# Altium schematic symbol library ROBOCAM_1.SCHLIB: 230 symbols (part 1 of 5)
Pins are listed as number, name and electrical type; pins without a type are passive.

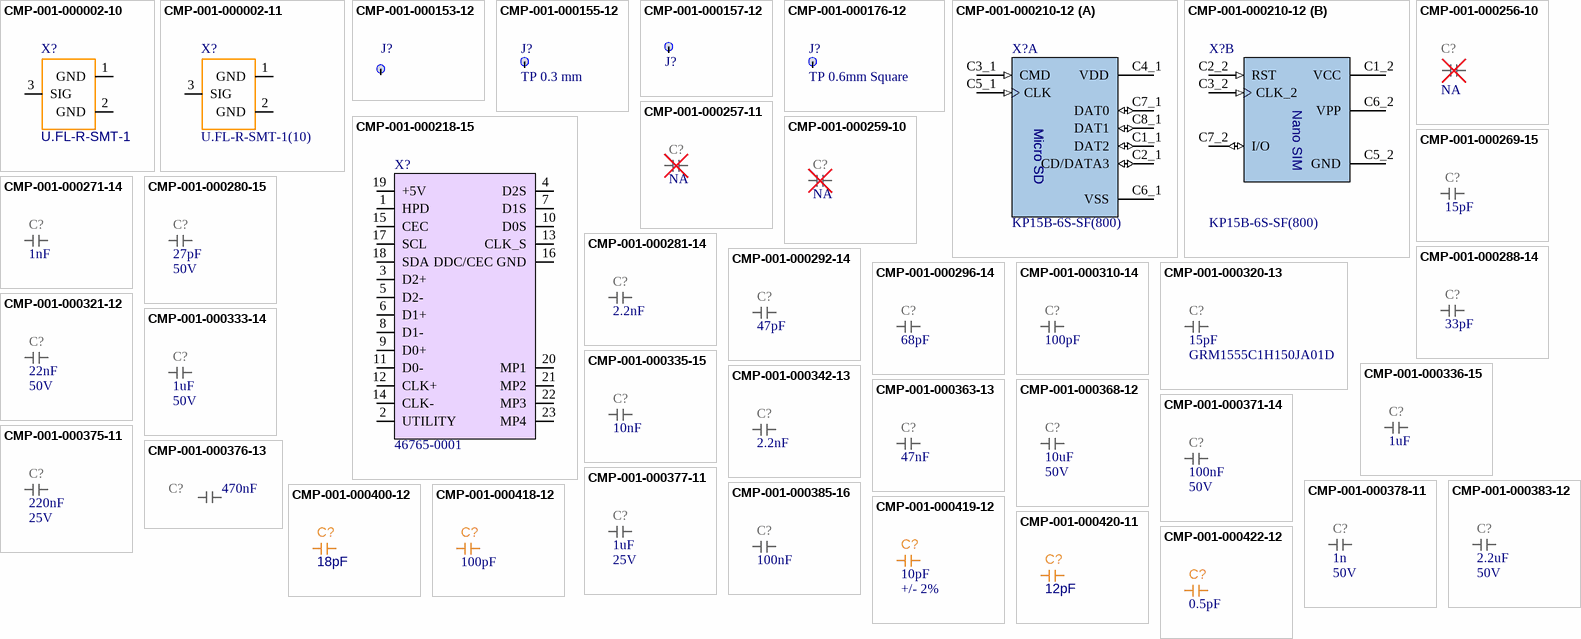
[diagram p0: symbols CMP-001-000002-10 to CMP-001-000422-12]

## CMP-001-000002-10
designator X?, comment Part Number: U.FL-R-SMT-1  (hidden comment: U_FL_V3)
U.FL Connector, v3, updated pads smaller by Sercom.; Manufacturer: Hirose; Manufacturer: HIROSE ELECTRIC; Manufacturer Part Number: U.FL-R-SMT-1(10); Sort order: 111; HasBeenBuilt: True; ClassName: BIG; ComponentLink1Description: 1_Datasheet; ComponentLink1URL: https://www.hirose.com/product/document?clcode=CL0331-0472-2-80&productname=U.FL-R-SMT-1(80)&series=U.FL&documenttype=2DDrawing&lang=en&documentid=0001257922; ComponentLink2Description: 2_Product page; ComponentLink3Description: 3_X-information; ComponentLink4Description: 4_X-information; Creation date: 20200101; System: Connector; Design Item ID: U_FL_V3; Source: Conn_UN1Q.SchLib; Component Type: RF Connector
footprint U_FL_HRS_V3 (SMD, 3-Leads, Body 2.6x2.6mm)
pins: 1 GND (power), 2 GND (power), 3 SIG

## CMP-001-000002-11
designator X?, comment Part Number: U.FL-R-SMT-1(10)  (hidden comment: U_FL_V3)
U.FL Connector, v3, updated pads smaller by Sercom.; Manufacturer: Hirose; Manufacturer: HIROSE ELECTRIC; Sort order: 111; HasBeenBuilt: True; ClassName: BIG; ComponentLink1Description: 1_Datasheet; ComponentLink1URL: https://www.hirose.com/product/document?clcode=CL0331-0472-2-80&productname=U.FL-R-SMT-1(80)&series=U.FL&documenttype=2DDrawing&lang=en&documentid=0001257922; ComponentLink2Description: 2_Product page; ComponentLink3Description: 3_X-information; ComponentLink4Description: 4_X-information; Creation date: 20200101; System: Connector; ECCN: EAR99; Design Item ID: U_FL_V3; Source: Conn_UN1Q.SchLib; RoHS: RoHS 3; Manufacturer Part Number: U.FL-R-SMT-1(10); Component Type: RF Connector
footprint U_FL_HRS_V3 (SMD, 3-Leads, Body 2.6x2.6mm)
pins: 1 GND (power), 2 GND (power), 3 SIG

## CMP-001-000153-12
designator J?, comment Testpoint, Surface, 1.0mm  (value not drawn)  (no BOM)
Testpoint 1.0mm; Part Number: TP 1mm; Sort order: -; HasBeenBuilt: -; ClassName: SMALL; ComponentLink1Description: 1_Datasheet; ComponentLink2Description: 2_Product page; ComponentLink3Description: 3_X-information; ComponentLink4Description: 4_X-information; Creation date: 20200101; System: Test Point; Design Item ID: TP_1mm; Source: Conn_UN1Q.SchLib; Component Type: Test Point
footprint TP_1mm_UN1Q (Test Point, Circular, 1.0 mm)
pins: 1 TP

## CMP-001-000155-12
designator J?, comment Part Number: TP 0.3 mm  (hidden comment: TP_03mm)  (no BOM)
Testpoint 0.3mm; HasBeenBuilt: -; ComponentLink3Description: 3_X-information; Creation date: 20220808; System: Test Point; Sort order: -; ClassName: SMALL; Source: Conn_UN1Q.SchLib; ComponentLink1Description: 1_Datasheet; ComponentLink2Description: 2_Product page; Design Item ID: TP_03mm; ComponentLink4Description: 4_X-information; Component Type: Test Point
footprint TP_03mm_UN1Q (Test Point 0.3 mm)
pins: 1 TP

## CMP-001-000157-12
designator J?, comment PAD 1 x 2 mm  (value not drawn)  (no BOM)
Part Number: TP 1x2mm; System: Test Point; Sort order: -; HasBeenBuilt: -; ClassName: SMALL; ComponentLink1Description: 1_Datasheet; ComponentLink2Description: 2_Product page; ComponentLink3Description: 3_X-information; ComponentLink4Description: 4_X-information; Creation date: 20200101; Source: Conn_UN1Q.SchLib; Design Item ID: TP_1x2mm; Component Type: Test Point
footprint TP_1x2mm_UN1Q (Test Point 1 mm x 2 mm)
pins: 1 TP

## CMP-001-000176-12
designator J?, comment Part Number: TP 0.6mm Square  (hidden comment: TP_06mm_Square)  (no BOM)
Testpoint, Square, 0.6 mm; ClassName: SMALL; Sort order: -; Design Item ID: TP_06mm_Square; ComponentLink4Description: 4_X-information; ComponentLink1Description: 1_Datasheet; Creation date: 20200101; ComponentLink2Description: 2_Product page; HasBeenBuilt: -; Source: Conn_UN1Q.SchLib; ComponentLink3Description: 3_X-information; System: Test Point; Component Type: Test Point
footprint TP_06mm_Square_UN1Q (Test Point, Square, 0.6mm)
pins: 1 TP

## CMP-001-000210-12
designator X?, comment Part Number: KP15B-6S-SF(800)  (hidden comment: KP15B-6S-SF800_Hirose)
microSD and NANO SIM Card Connector Combo; Manufacturer: Hirose; Manufacturer: HIROSE ELECTRIC; HasBeenBuilt: SleeveIO_01; Sort order: 111; ComponentLink2Description: 2_Product page; ClassName: BIG; Dimensions WxLxH: 12x18x2.1; ComponentLink1Description: 1_Datasheet; Source: Conn_UN1Q.SchLib; ComponentLink2URL: https://www.hirose.com/en/product/p/CL0480-0333-0-00; ComponentLink3Description: 3_X-information; System: Connector; Creation date: 20211115; Design Item ID: KP15B-6S-SF800_Hirose; ComponentLink1URL: https://www.hirose.com/en/product/document?clcode=CL0480-0333-0-00&productname=KP15B-6S-SF(800)&series=KP15&documenttype=2DDrawing&lang=en&documentid=KP15B-6S-SF_48003330_2D_ENG; ComponentLink4Description: 4_X-information; Manufacturer Part Number: KP15B-6S-SF(800); Component Type: Interface Connector
footprint KP15B-6S-SF800_HIROSE (micro SD, nano SIM Combo Card Socket)
part A pins: C1_1 DAT2 (io), C2_1 CD/DATA3 (io), C3_1 CMD (in), C4_1 VDD, C5_1 CLK (in), C6_1 VSS (power), C7_1 DAT0 (io), C8_1 DAT1 (io)
part B pins: C1_2 VCC (power), C2_2 RST (in), C3_2 CLK_2 (in), C5_2 GND (power), C6_2 VPP (power), C7_2 I/O (io), G1 GND (power) hidden to GND, G2 GND (power) hidden to GND, S1 SHIELD hidden to GND, S2 SHIELD hidden to GND, S3 SHIELD hidden to GND, S4 SHIELD hidden to GND, S5 SHIELD hidden to GND, S6 SHIELD hidden to GND, S7 SHIELD hidden to GND, S8 SHIELD hidden to GND, S9 SHIELD hidden to GND, S10 SHIELD hidden to GND
part A text: Micro SD
part B text: Nano SIM

## CMP-001-000218-15
designator X?, comment Part Number: 46765-0001  (hidden comment: Molex_uHDMI_46765-0001)
Micro-HDMI connector, surface mount; Manufacturer: Molex; Sort order: 111; RoHS: RoHS 3; Design Item ID: Molex_uHDMI_46765-0001; ComponentLink1Description: 1_Datasheet; Source: Conn_UN1Q.SchLib; Dimensions WxLxH: 6.5x7.7x2.9; System: Connector; ClassName: BIG; ComponentLink3Description: 3_X-information; ECCN: EAR99; ComponentLink1URL: https://www.molex.com/molex/products/part-detail/io_connectors/0467650001; ComponentLink4Description: 4_X-information; Creation date: 20191231; ComponentLink2Description: 2_Product page; Manufacturer Part Number: 46765-0001; Component Type: Interface Connector
footprint uHDMI-SMD-Molex (Micro-HDMI connector, surface mount)
pins: 1 HPD, 2 UTILITY, 3 D2+, 4 D2S, 5 D2-, 6 D1+, 7 D1S, 8 D1-, 9 D0+, 10 D0S, 11 D0-, 12 CLK+, 13 CLK_S, 14 CLK-, 15 CEC, 16 DDC/CEC GND, 17 SCL, 18 SDA, 19 +5V, 20 MP1, 21 MP2, 22 MP3, 23 MP4

## CMP-001-000256-10
designator C?, comment value NA  (hidden comment: CAP_0201_NA)
Not Assembled - CAP; Sort order: 999; System: RLC; HasBeenBuilt: TBD; ComponentLink4Description: 4_X-information; ClassName: SMALL; Package: 0201; ComponentLink2Description: 2_Product page; ComponentLink3Description: 3_X-information; ComponentLink1Description: 1_Datasheet; Creation date: 20190101; Source: RLC_UN1Q.SchLib; Component Type: Capacitor
footprint CAP_0201_UN1Q (Chip Capacitor 0201)
pins: 1, 2

## CMP-001-000257-11
designator C?, comment value NA  (hidden comment: CAP_0402_NA)
Not Assembled - CAP; Sort order: 999; System: RLC; HasBeenBuilt: TBD; Package: 0402; Source: RLC_UN1Q.SchLib; ComponentLink2Description: 2_Product page; Creation date: 20190101; ComponentLink3Description: 3_X-information; ComponentLink4Description: 4_X-information; ComponentLink1Description: 1_Datasheet; Component Type: Capacitor
footprint CAP_0402_UN1Q (Chip Capacitor 0402)
pins: 1, 2

## CMP-001-000259-10
designator C?, comment value NA  (hidden comment: CAP_0603_NA)
Not Assembled - CAP; Sort order: 999; System: RLC; HasBeenBuilt: TBD; Creation date: 20190101; Package: 0603; Source: RLC_UN1Q.SchLib; ComponentLink3Description: 3_X-information; ComponentLink1Description: 1_Datasheet; ComponentLink2Description: 2_Product page; ComponentLink4Description: 4_X-information; Component Type: Capacitor
footprint CAP_0603_UN1Q (Chip Capacitor 0603)
pins: 1, 2

## CMP-001-000269-15
designator C?, comment value 15pF  (hidden comment: CAP_0201_15p)
CAP; Part Number: GRM0335C1H150JA01D; Manufacturer: Murata; Temperature characteristics: C0G; Voltage: 50V; Tolerance: +/-5%; Sort order: 302; HasBeenBuilt: TBD; Alternative component: Allowed; System: RLC; Package: 0201; ComponentLink1Description: 1_Datasheet; ComponentLink2Description: 2_Product page; ComponentLink3Description: 3_X-information; ComponentLink4Description: 4_X-information; Creation date: 20190101; ClassName: SMALL; Source: RLC_UN1Q.SchLib; Manufacturer Part Number: GRM0335C1H150JA01D; Component Type: Capacitor
footprint CAP_0201_UN1Q (Chip Capacitor 0201)
pins: 1, 2

## CMP-001-000271-14
designator C?, comment value 1nF  (hidden comment: CAP_0201_1n0)
CAP; Part Number: GRM033R71E102KA01D; Manufacturer: Samsung; Manufacturer: Murata; Temperature characteristics: X7R; Tolerance: +/-10%; Sort order: 302; HasBeenBuilt: TBD; Alternative component: Allowed; Voltage: 25V; System: RLC; Package: 0201; ComponentLink1Description: 1_Datasheet; ComponentLink2Description: 2_Product page; ComponentLink3Description: 3_X-information; ComponentLink4Description: 4_X-information; Creation date: 20190101; ClassName: SMALL; Manufacturer Part Number: GRM033R71E102KA01D; Component Type: Capacitor
footprint CAP_0201_UN1Q (Chip Capacitor 0201)
pins: 1, 2

## CMP-001-000280-15
designator C?, comment value 27pF  Voltage: 50V  (hidden comment: CAP_0201_27p)
CAP; Part Number: GRM0335C1H270JA01D; Manufacturer: TDK; Manufacturer: Murata; Temperature characteristics: C0G; Tolerance: +/-5%; Sort order: 302; HasBeenBuilt: TBD; Alternative component: Allowed; System: RLC; Package: 0201; ComponentLink1Description: 1_Datasheet; ComponentLink2Description: 2_Product page; ComponentLink3Description: 3_X-information; ComponentLink4Description: 4_X-information; Creation date: 20190101; ClassName: SMALL; Source: RLC_UN1Q.SchLib; Manufacturer Part Number: GRM0335C1H270JA01D; Component Type: Capacitor
footprint CAP_0201_UN1Q (Chip Capacitor 0201)
pins: 1, 2

## CMP-001-000281-14
designator C?, comment value 2.2nF  (hidden comment: CAP_0201_2n2)
CAP; Part Number: GRM033R71E222KA12J; Manufacturer: Murata; Tolerance: +/-10%; Voltage: 25V; Temperature characteristics: X7R; Sort order: 302; HasBeenBuilt: TBD; Alternative component: Allowed; System: RLC; Package: 0201; ClassName: SMALL; ComponentLink1Description: 1_Datasheet; ComponentLink2Description: 2_Product page; ComponentLink3Description: 3_X-information; ComponentLink4Description: 4_X-information; Creation date: 20222504; Source: RLC_UN1Q.SchLib; Manufacturer Part Number: GRM033R71E222KA12J; Component Type: Capacitor
footprint CAP_0201_UN1Q (Chip Capacitor 0201)
pins: 1, 2

## CMP-001-000288-14
designator C?, comment value 33pF  (hidden comment: CAP_0201_33p)
CAP; Part Number: GRT0335C1E330JA02D; Manufacturer: Murata; Alternative component: Allowed; Tolerance: +/-5%; Temperature characteristics: C0G; System: RLC; Voltage: 25V; Sort order: 302; ComponentLink4Description: 4_X-information; Package: 0201; ComponentLink1Description: 1_Datasheet; ComponentLink2Description: 2_Product page; ClassName: SMALL; ComponentLink3Description: 3_X-information; Creation date: 20190101; Manufacturer Part Number: GRT0335C1E330JA02D; Component Type: Capacitor
footprint CAP_0201_UN1Q (Chip Capacitor 0201)
pins: 1, 2

## CMP-001-000292-14
designator C?, comment value 47pF  (hidden comment: CAP_0201_47p)
CAP; Part Number: GRM0335C1H470JA01D; Manufacturer: Samsung; Manufacturer: Murata; Temperature characteristics: C0G; Voltage: 50V; Tolerance: +/-5%; Sort order: 302; HasBeenBuilt: TBD; Alternative component: Allowed; System: RLC; Package: 0201; ClassName: SMALL; ComponentLink1Description: 1_Datasheet; ComponentLink2Description: 2_Product page; ComponentLink3Description: 3_X-information; ComponentLink4Description: 4_X-information; Creation date: 20190101; Source: RLC_UN1Q.SchLib; Manufacturer Part Number: GRM0335C1H470JA01D; Component Type: Capacitor
footprint CAP_0201_UN1Q (Chip Capacitor 0201)
pins: 1, 2

## CMP-001-000296-14
designator C?, comment value 68pF  (hidden comment: CAP_0201_68p)
CAP; Part Number: GRM0335C1E680JA01D; Manufacturer: Murata; Temperature characteristics: C0G; Alternative component: Allowed; Tolerance: +/-5%; Voltage: 25V; HasBeenBuilt: TBD; Sort order: 302; System: RLC; Operating temperature range: -55°C ~ 125°C; ComponentLink3Description: 3_X-information; ComponentLink2Description: 2_Product page; Package: 0201; Creation date: 20190101; ComponentLink4Description: 4_X-information; ClassName: SMALL; ComponentLink1Description: 1_Datasheet; Manufacturer Part Number: GRM0335C1E680JA01D; Component Type: Capacitor
footprint CAP_0201_UN1Q (Chip Capacitor 0201)
pins: 1, 2

## CMP-001-000310-14
designator C?, comment value 100pF  (hidden comment: CAP_0201_100p)
CAP; Part Number: CC0201KRX7R8BB101; Manufacturer: YAGEO; Manufacturer: Yageo Group; Temperature characteristics: X7R; Voltage: 25V; Tolerance: +/-10%; Sort order: 302; HasBeenBuilt: TBD; Alternative component: Allowed; System: RLC; Package: 0201; ClassName: SMALL; ComponentLink1Description: 1_Datasheet; ComponentLink2Description: 2_Product page; ComponentLink3Description: 3_X-information; ComponentLink4Description: 4_X-information; Creation date: 20190101; Manufacturer Part Number: CC0201KRX7R8BB101; Component Type: Capacitor
footprint CAP_0201_UN1Q (Chip Capacitor 0201)
pins: 1, 2

## CMP-001-000320-13
designator C?, comment value 15pF  Part Number: GRM1555C1H150JA01D  (hidden comment: CAP_0402_15pF)
CAP; Manufacturer: Murata; Sort order: 304; Alternative component: Allowed; Tolerance: +/-5%; Temperature characteristics: C0G; System: RLC; HasBeenBuilt: Saluki3; Voltage: 50V; Operating temperature range: -55 ... +125°C; ComponentLink4Description: 4_X-information; Creation date: 20230614; Source: RLC_UN1Q.SchLib; Package: 0402; ComponentLink2Description: 2_Product page; ComponentLink3Description: 3_X-information; ECCN: EAR99; ComponentLink1Description: 1_Datasheet; RoHS: ROHS3; Manufacturer Part Number: GRM1555C1H150JA01D; Component Type: Capacitor
footprint CAP_0402_UN1Q (Chip Capacitor 0402)
pins: 1, 2

## CMP-001-000321-12
designator C?, comment value 22nF  Voltage: 50V  (hidden comment: CAP_0402_22nF)
CAP; Part Number: GCM155R71H223KA55D; Manufacturer: Murata; Temperature characteristics: X7R; Sort order: 304; System: RLC; HasBeenBuilt: False; Tolerance: +/-10%; Alternative component: Allowed; ECCN: EAR99; Creation date: 20210916; ComponentLink1Description: 1_Datasheet; Source: RLC_UN1Q.SchLib; ComponentLink4Description: 4_X-information; ComponentLink2Description: 2_Product page; RoHS: RoHS3; Package: 0402; ComponentLink3Description: 3_X-information; Operating temperature range: -55 ... +125°C; Manufacturer Part Number: GCM155R71H223KA55D; Component Type: Capacitor
footprint CAP_0402_UN1Q (Chip Capacitor 0402)
pins: 1, 2

## CMP-001-000333-14
designator C?, comment value 1uF  Voltage: 50V  (hidden comment: CAP_0603_1u_X7R)
CAP; Part Number: UMK107AB7105KA-T; Manufacturer: Taiyo Yuden; Tolerance: +/-20%; Sort order: 306; HasBeenBuilt: TBD; Alternative component: Allowed; Temperature characteristics: X7R; System: RLC; Package: 0603; ComponentLink1Description: 1_Datasheet; ComponentLink2Description: 2_Product page; ComponentLink3Description: 3_X-information; ComponentLink4Description: 4_X-information; Creation date: 20210917; Source: RLC_UN1Q.SchLib; Manufacturer Part Number: UMK107AB7105KA-T; Component Type: Capacitor
footprint CAP_0603_UN1Q (Chip Capacitor 0603)
pins: 1, 2

## CMP-001-000335-15
designator C?, comment value 10nF  (hidden comment: CAP_0201_10n_16V)
CAP; Part Number: GRM033R71C103KE14D; Manufacturer: Murata; Temperature characteristics: X7R; Tolerance: +/-10%; Sort order: 302; HasBeenBuilt: TBD; Alternative component: Allowed; Voltage: 16V; System: RLC; Package: 0201; ClassName: SMALL; ComponentLink1Description: 1_Datasheet; ComponentLink2Description: 2_Product page; ComponentLink3Description: 3_X-information; ComponentLink4Description: 4_X-information; Creation date: 20190101; Source: RLC_UN1Q.SchLib; Manufacturer Part Number: GRM033R71C103KE14D; Component Type: Capacitor
footprint CAP_0201_UN1Q (Chip Capacitor 0201)
pins: 1, 2

## CMP-001-000336-15
designator C?, comment value 1uF  (hidden comment: CAP_0201_1uF_X6S)
CAP; Part Number: KGM03CS61A105MH; Manufacturer: Kyocera; Manufacturer: KYOCERA AVX; Temperature characteristics: X6S; Voltage: 10V; Tolerance: +/-20%; Sort order: 302; HasBeenBuilt: False; Alternative component: Allowed; System: RLC; Package: 0201; Operating temperature range: -55C to +105C; ClassName: SMALL; ComponentLink1Description: 1_Datasheet; ComponentLink2Description: 2_Product page; ComponentLink3Description: 3_X-information; ComponentLink4Description: 4_X-information; Creation date: 20190101; Source: RLC_UN1Q.SchLib; Manufacturer Part Number: KGM03CS61A105MH; Component Type: Capacitor
footprint CAP_0201_UN1Q (Chip Capacitor 0201)
pins: 1, 2

## CMP-001-000342-13
designator C?, comment value 2.2nF  (hidden comment: CAP_0402_2n2_X7R)
CAP; Part Number: GRM155R71H222KA01D; Manufacturer: Murata; Sort order: 304; System: RLC; Voltage: 50V; Alternative component: Allowed; Tolerance: +/-10%; Temperature characteristics: X7R; HasBeenBuilt: Saluki3; Source: RLC_UN1Q.SchLib; RoHS: RoHS3; ComponentLink1Description: 1_Datasheet; ComponentLink3Description: 3_X-information; ECCN: EAR99; ComponentLink2Description: 2_Product page; Creation date: 20221705; Package: 0402; ComponentLink4Description: 4_X-information; Operating temperature range: -55 to +125°C; Manufacturer Part Number: GRM155R71H222KA01D; Component Type: Capacitor
footprint CAP_0402_UN1Q (Chip Capacitor 0402)
pins: 1, 2

## CMP-001-000363-13
designator C?, comment value 47nF  (hidden comment: CAP_0402_47nF_50V)
CAP; Part Number: GRM155R71H473KE14D; Manufacturer: Murata; Temperature characteristics: X7R; Voltage: 50V; Tolerance: +/-10%; Sort order: 304; HasBeenBuilt: TBD; Alternative component: Allowed; System: RLC; Package: 0402; ComponentLink1Description: 1_Datasheet; ComponentLink2Description: 2_Product page; ComponentLink3Description: 3_X-information; ComponentLink4Description: 4_X-information; Creation date: 20190101; Source: RLC_UN1Q.SchLib; Manufacturer Part Number: GRM155R71H473KE14D; Component Type: Capacitor
footprint CAP_0402_UN1Q (Chip Capacitor 0402)
pins: 1, 2

## CMP-001-000368-12
designator C?, comment value 10uF  Voltage: 50V  (hidden comment: CAP_1206_10uF_X7R)
CAP; Part Number: CL31B106KBHNNNE; Manufacturer: Samsung; Manufacturer: Samsung Electro-Mechanics; Temperature characteristics: X7R; Tolerance: +/-10%; Sort order: 308; HasBeenBuilt: Saluki3; Alternative component: Allowed; System: RLC; Package: 1206; Operating temperature range: -55 ... +125°C; ComponentLink1Description: 1_Datasheet; ComponentLink2Description: 2_Product page; ComponentLink3Description: 3_X-information; ComponentLink4Description: 4_X-information; Creation date: 20220729; ECCN: EAR99; Source: RLC_UN1Q.SchLib; RoHS: ROHS3; Manufacturer Part Number: CL31B106KBHNNNE; Component Type: Capacitor
footprint CAP_1206_UN1Q (Chip Capacitor 1206)
pins: 1, 2

## CMP-001-000371-14
designator C?, comment value 100nF  Voltage: 50V  (hidden comment: CAP_0402_100nF_50V)
CAP; Part Number: GRM155R71H104KE14D; Manufacturer: Murata; Temperature characteristics: X7R; Tolerance: +/-10%; Sort order: 304; HasBeenBuilt: TBD; Alternative component: Allowed; System: RLC; Package: 0402; ComponentLink1Description: 1_Datasheet; ComponentLink2Description: 2_Product page; ComponentLink3Description: 3_X-information; ComponentLink4Description: 4_X-information; Creation date: 20190101; Manufacturer Part Number: GRM155R71H104KE14D; Component Type: Capacitor
footprint CAP_0402_UN1Q (Chip Capacitor 0402)
pins: 1, 2

## CMP-001-000375-11
designator C?, comment value 220nF  Voltage: 25V  (hidden comment: CAP_0402_220nF_X7R)
CAP; Part Number: CGA2B3X7R1E224K050BB; Manufacturer: TDK; Temperature characteristics: X7R; Tolerance: +/-10%; Sort order: 304; HasBeenBuilt: Saluki3; Alternative component: Allowed; System: RLC; Package: 0402; Operating temperature range: -55 ... +125°C; ComponentLink1Description: 1_Datasheet; ComponentLink2Description: 2_Product page; ComponentLink3Description: 3_X-information; ComponentLink4Description: 4_X-information; Creation date: 20230510; Source: RLC_UN1Q.SchLib; ECCN: EAR99; RoHS: ROSH3; Manufacturer Part Number: CGA2B3X7R1E224K050BB; Component Type: Capacitor
footprint CAP_0402_UN1Q (Chip Capacitor 0402)
pins: 1, 2

## CMP-001-000376-13
designator C?, comment value 470nF  (hidden comment: CAP_0402_470nF_X7R)
CAP; Part Number: GRM155R71A474ME01D; Manufacturer: Murata; Voltage: 10V; Tolerance: +/-20%; System: RLC; Temperature characteristics: X7R; HasBeenBuilt: TBD; Sort order: 304; Alternative component: Allowed; ComponentLink4Description: 4_X-information; Source: RLC_UN1Q.SchLib; ComponentLink3Description: 3_X-information; ComponentLink2Description: 2_Product page; Creation date: 20211026; Operating temperature range: -55 ... +125°C; ComponentLink1Description: 1_Datasheet; ECCN: EAR99; Package: 0402; RoHS: RoHS3; Manufacturer Part Number: GRM155R71A474ME01D; Component Type: Capacitor
footprint CAP_0402_UN1Q (Chip Capacitor 0402)
pins: 1, 2

## CMP-001-000377-11
designator C?, comment value 1uF  Voltage: 25V  (hidden comment: CAP_0402_1uF_25V_X6S)
CAP; Part Number: GRM155C81E105KE11J; Manufacturer: Murata; Temperature characteristics: X6S; Tolerance: +/-10%; Sort order: 304; HasBeenBuilt: Saluki3; Alternative component: Allowed; System: RLC; Package: 0402; Operating temperature range: -55 ... +105°C; ComponentLink1Description: 1_Datasheet; ComponentLink2Description: 2_Product page; ComponentLink3Description: 3_X-information; ComponentLink4Description: 4_X-information; Creation date: 20211026; Source: RLC_UN1Q.SchLib; RoHS: RoHS3; ECCN: EAR99; Manufacturer Part Number: GRM155C81E105KE11J; Component Type: Capacitor
footprint CAP_0402_UN1Q (Chip Capacitor 0402)
pins: 1, 2

## CMP-001-000378-11
designator C?, comment value 1n  Voltage: 50V  (hidden comment: CAP_0603_1n_100V_X7R)
CAP; Manufacturer: Murata; Part Number: GCM188R71H102KA37J; Temperature characteristics: X7R; HasBeenBuilt: TBD; System: RLC; Alternative component: Allowed; Sort order: 306; Tolerance: +/-10%; Creation date: 20210927; Package: 0603; ComponentLink4Description: 4_X-information; ComponentLink2Description: 2_Product page; ECCN: EAR99; RoHS: RoHS3; Operating temperature range: -55 ... +125°C; ComponentLink3Description: 3_X-information; Source: RLC_UN1Q.SchLib; ComponentLink1Description: 1_Datasheet; Manufacturer Part Number: GCM188R71H102KA37J; Component Type: Capacitor
footprint CAP_0603_UN1Q (Chip Capacitor 0603)
pins: 1, 2

## CMP-001-000383-12
designator C?, comment value 2.2uF  Voltage: 50V  (hidden comment: CAP_0805_2u2_50V_X7R)
CAP; Manufacturer: TDK; Part Number: C2012X7R1H225K125AC; Temperature characteristics: X7R; System: RLC; Tolerance: +/-10%; Alternative component: Allowed; Sort order: 308; HasBeenBuilt: Saluki3; Creation date: 20220803; ComponentLink2Description: 2_Product page; Operating temperature range: -55 ... +125°C; ComponentLink4Description: 4_X-information; ComponentLink3Description: 3_X-information; RoHS: ROHS3; ComponentLink1Description: 1_Datasheet; Source: RLC_UN1Q.SchLib; Package: 0805; ECCN: EAR99; Manufacturer Part Number: C2012X7R1H225K125AC; Component Type: Capacitor
footprint CAP_0805_UN1Q (Chip Capacitor 0805)
pins: 1, 2

## CMP-001-000385-16
designator C?, comment value 100nF  (hidden comment: CAP_0201_100n_X7S_16V)
CAP; Part Number: GRM033C71C104KE14D; Manufacturer: Murata; Temperature characteristics: X7S; Tolerance: +/-10%; Sort order: 302; HasBeenBuilt: TBD; Alternative component: Allowed; Voltage: 16V; System: RLC; Package: 0201; ClassName: SMALL; ComponentLink1Description: 1_Datasheet; ComponentLink2Description: 2_Product page; ComponentLink3Description: 3_X-information; ComponentLink4Description: 4_X-information; Creation date: 20190101; Source: RLC_UN1Q.SchLib; Manufacturer Part Number: GRM033C71C104KE14D; Component Type: Capacitor
footprint CAP_0201_UN1Q (Chip Capacitor 0201)
pins: 1, 2

## CMP-001-000400-12
designator C?, comment value 18pF  (hidden comment: CAP_0201_18p_RF_MATCHING)
CAP_RF_MATCHING; Part Number: GJM0335C1E180JB01; Manufacturer: Murata; Voltage: 25V; Tolerance: +/-2%; Temperature characteristics: C0G; Remark: RF matching, use part number; Sort order: 202; HasBeenBuilt: TBD; System: RLC; Package: 0201; ClassName: SMALL; ComponentLink1Description: 1_Datasheet; ComponentLink2Description: 2_Product page; ComponentLink3Description: 3_X-information; ComponentLink4Description: 4_X-information; Creation date: 20200101; Source: RLC_UN1Q.SchLib; Manufacturer Part Number: GJM0335C1E180JB01; Component Type: Capacitor
footprint CAP_0201_UN1Q (Chip Capacitor 0201)
pins: 1, 2

## CMP-001-000418-12
designator C?, comment value 100pF  (hidden comment: CAP_0201_100p_RF_MATCHING)
CAP_RF_MATCHING; Manufacturer: Murata; Part Number: GRM0335C1E101JA01; Manufacturer Part Number: GRM0335C1E101JA01D; HasBeenBuilt: TBD; Remark: RF matching, use part number; System: RLC; Sort order: 202; Voltage: 25V; Tolerance: +/-5%; Temperature characteristics: C0G; ComponentLink4Description: 4_X-information; Creation date: 20200101; Source: RLC_UN1Q.SchLib; ComponentLink2Description: 2_Product page; Package: 0201; ComponentLink1Description: 1_Datasheet; ClassName: SMALL; ComponentLink3Description: 3_X-information; Component Type: Capacitor
footprint CAP_0201_UN1Q (Chip Capacitor 0201)
pins: 1, 2

## CMP-001-000419-12
designator C?, comment value 10pF  Tolerance: +/- 2%  (hidden comment: CAP_0201_10pF_RF_MATCHING)
CAP_RF_MATCHING; Part Number: GRM0335C1H100GA01; Manufacturer: Murata; Remark: RF matching, use part number; HasBeenBuilt: TBD; Voltage: 50V; System: RLC; Sort order: 202; Temperature characteristics: C0G; ComponentLink1Description: 1_Datasheet; Operating temperature range: -55 ... +125C; Package: 0201; Creation date: 20200101; ComponentLink2Description: 2_Product page; Source: RLC_UN1Q.SchLib; ComponentLink4Description: 4_X-information; ComponentLink3Description: 3_X-information; ClassName: SMALL; Manufacturer Part Number: GRM0335C1H100GA01; Component Type: Capacitor
footprint CAP_0201_UN1Q (Chip Capacitor 0201)
pins: 1, 2

## CMP-001-000420-11
designator C?, comment value 12pF  (hidden comment: CAP_0201_12pF_RF_MATCHING)
CAP_RF_MATCHING; Part Number: GRM0335C1H120GA01; Manufacturer: Murata; Voltage: 50V; Tolerance: +/- 2%; Temperature characteristics: C0G; Remark: RF matching, use part number; Sort order: 202; HasBeenBuilt: TBD; System: RLC; Package: 0201; Operating temperature range: -55 ... +125C; ComponentLink1Description: 1_Datasheet; ComponentLink2Description: 2_Product page; ComponentLink3Description: 3_X-information; ComponentLink4Description: 4_X-information; Creation date: 20211123; ClassName: SMALL; Source: RLC_UN1Q.SchLib; Manufacturer Part Number: GRM0335C1H120GA01; Component Type: Capacitor
footprint CAP_0201_UN1Q (Chip Capacitor 0201)
pins: 1, 2

## CMP-001-000422-12
designator C?, comment value 0.5pF  (hidden comment: CAP_0201_0p5_GJM_RF_MATCHING)
CAP_RF_MATCHING; Part Number: GJM0335C1ER50WB01; Manufacturer: Murata; Sort order: 202; Tolerance: +/-0.05pF; Temperature characteristics: C0G; System: RLC; HasBeenBuilt: False; Voltage: 25V; Remark: RF matching, use part number; ComponentLink1URL: https://www.murata.com/en-eu/products/productdetail?partno=GJM0335C1ER50WB01%23; Operating temperature range: -55 ... +125C; ComponentLink4Description: 4_X-information; Creation date: 20220131; Source: RLC_UN1Q.SchLib; Package: 0201; ComponentLink2Description: 2_Product page; ComponentLink3Description: 3_X-information; ComponentLink1Description: 1_Datasheet; ClassName: SMALL; Manufacturer Part Number: GJM0335C1ER50WB01; Component Type: Capacitor
footprint CAP_0201_UN1Q (Chip Capacitor 0201)
pins: 1, 2

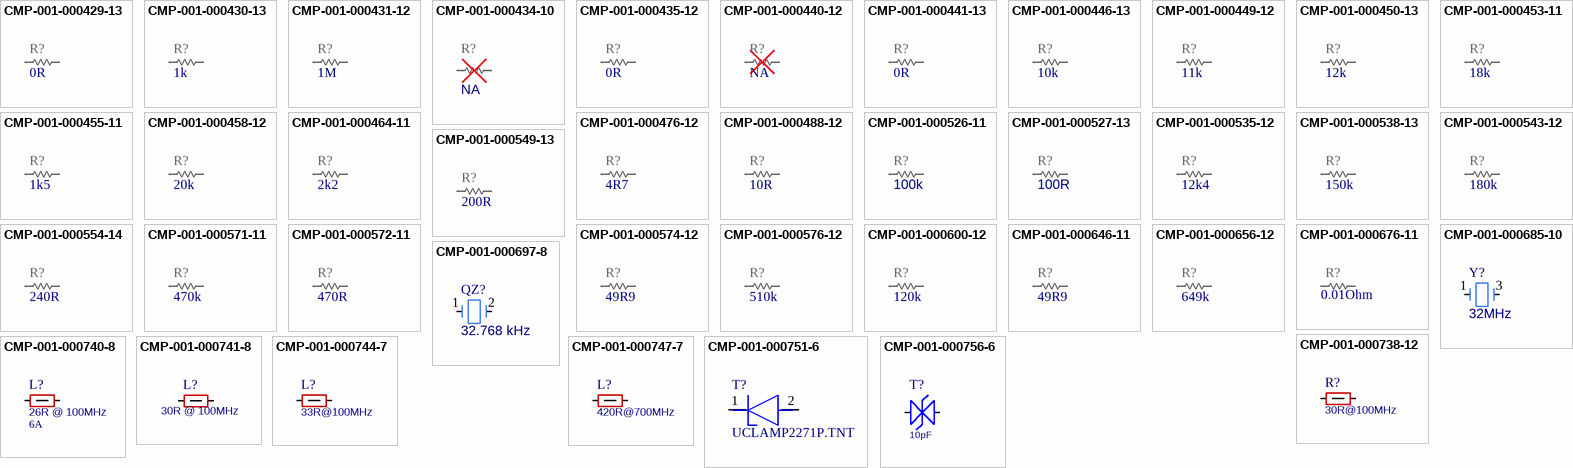
[diagram p1: symbols CMP-001-000429-13 to CMP-001-000756-6]

## CMP-001-000429-13
designator R?, comment value 0R  (hidden comment: RES_0201_0R)
RES; Part Number: RC0201JR-070RL; Manufacturer: YAGEO; Tolerance: 5%; Power Rating: 1/20W; Sort order: 322; HasBeenBuilt: TBD; Alternative component: Allowed; System: RLC; Package: 0201; ClassName: SMALL; ComponentLink1Description: 1_Datasheet; ComponentLink2Description: 2_Product page; ComponentLink3Description: 3_X-information; ComponentLink4Description: 4_X-information; Creation date: 20190101; Source: RLC_UN1Q.SchLib; Component Type: Resistor
footprint RES_0201_UN1Q (Chip Resistor, 0.6x0.3mm)
pins: 1, 2

## CMP-001-000430-13
designator R?, comment value 1k  (hidden comment: RES_0201_1k)
RES; Part Number: RC0201FR-071KL; Manufacturer: YAGEO; Tolerance: 1%; Power Rating: 1/20W; Sort order: 322; HasBeenBuilt: TBD; Alternative component: Allowed; System: RLC; Package: 0201; ComponentLink1Description: 1_Datasheet; ComponentLink2Description: 2_Product page; ComponentLink3Description: 3_X-information; ComponentLink4Description: 4_X-information; Creation date: 20190101; ClassName: SMALL; Source: RLC_UN1Q.SchLib; Component Type: Resistor
footprint RES_0201_UN1Q (Chip Resistor, 0.6x0.3mm)
pins: 1, 2

## CMP-001-000431-12
designator R?, comment value 1M  (hidden comment: RES_0201_1M)
RES; Manufacturer: Yageo; Part Number: RC0201FR-071ML; Sort order: 322; System: RLC; Tolerance: 1%; HasBeenBuilt: TBD; Alternative component: Allowed; Power Rating: 1/20W; ComponentLink1Description: 1_Datasheet; ClassName: SMALL; ComponentLink2Description: 2_Product page; Creation date: 20190101; Package: 0201; ComponentLink4Description: 4_X-information; Source: RLC_UN1Q.SchLib; ComponentLink3Description: 3_X-information; Component Type: Resistor
footprint RES_0201_UN1Q (Chip Resistor, 0.6x0.3mm)
pins: 1, 2

## CMP-001-000434-10
designator R?, comment value NA  (hidden comment: RES_0201_NA)
Not Assembled - RES; Sort order: 999; HasBeenBuilt: TBD; System: RLC; Package: 0201; ClassName: SMALL; ComponentLink1Description: 1_Datasheet; ComponentLink2Description: 2_Product page; ComponentLink3Description: 3_X-information; ComponentLink4Description: 4_X-information; Creation date: 20190101; Source: RLC_UN1Q.SchLib; Component Type: Resistor
footprint RES_0201_UN1Q (Chip Resistor, 0.6x0.3mm)
pins: 1, 2

## CMP-001-000435-12
designator R?, comment value 0R  (hidden comment: RES_0402_0R)
RES; Part Number: RC0402FR-070RL; Manufacturer: Yageo; Manufacturer: Yageo Group; Power Rating: 1/16W; HasBeenBuilt: Saluki3; Tolerance: 1%; Alternative component: Allowed; System: RLC; Sort order: 324; ECCN: EAR99; ComponentLink1Description: 1_Datasheet; ComponentLink2Description: 2_Product page; Package: 0402; RoHS: RoHS3 with ex; ComponentLink4Description: 4_X-information; Operating temperature range: -55 ... +155°C; ComponentLink3Description: 3_X-information; Creation date: 20190101; Source: RLC_UN1Q.SchLib; Manufacturer Part Number: RC0402FR-070RL; Component Type: Resistor
footprint RES_0402_UN1Q (Chip Resistor, 1.0x0.5mm)
pins: 1, 2

## CMP-001-000440-12
designator R?, comment value NA  (hidden comment: RES_0402_NA)
Not Assembled - RES; HasBeenBuilt: TBD; System: RLC; Sort order: 999; Creation date: 20190101; ComponentLink1Description: 1_Datasheet; Package: 0402; ComponentLink4Description: 4_X-information; ComponentLink3Description: 3_X-information; ComponentLink2Description: 2_Product page; Source: RLC_UN1Q.SchLib; Component Type: Resistor
footprint RES_0402_UN1Q (Chip Resistor, 1.0x0.5mm)
pins: 1, 2

## CMP-001-000441-13
designator R?, comment value 0R  (hidden comment: RES_0603_0R)
RES; Manufacturer: YAGEO; Part Number: RC0603FR-070RL; Alternative component: Allowed; HasBeenBuilt: TBD; Tolerance: 5%; Sort order: 326; Power Rating: 1/10W; System: RLC; ComponentLink2Description: 2_Product page; Source: RLC_UN1Q.SchLib; ComponentLink3Description: 3_X-information; ComponentLink1Description: 1_Datasheet; Package: 0603; Creation date: 20190101; ComponentLink4Description: 4_X-information; Component Type: Resistor
footprint RES_0603_UN1Q (Chip Resistor, 1.6x0.8mm)
pins: 1, 2

## CMP-001-000446-13
designator R?, comment value 10k  (hidden comment: RES_0201_10k)
RES; Part Number: RC0201FR-0710KL; Manufacturer: YAGEO; Power Rating: 1/20W; Sort order: 322; HasBeenBuilt: TBD; Tolerance: 1%; Alternative component: Allowed; System: RLC; Package: 0201; ClassName: SMALL; ComponentLink1Description: 1_Datasheet; ComponentLink2Description: 2_Product page; ComponentLink3Description: 3_X-information; ComponentLink4Description: 4_X-information; Creation date: 20190101; Source: RLC_UN1Q.SchLib; Component Type: Resistor
footprint RES_0201_UN1Q (Chip Resistor, 0.6x0.3mm)
pins: 1, 2

## CMP-001-000449-12
designator R?, comment value 11k  (hidden comment: RES_0201_11k)
RES; Part Number: RC0201FR-0711KL; Manufacturer: YAGEO; Tolerance: 1%; Power Rating: 1/20W; Sort order: 322; HasBeenBuilt: TBD; Alternative component: Allowed; System: RLC; Package: 0201; ComponentLink1Description: 1_Datasheet; ComponentLink2Description: 2_Product page; ComponentLink3Description: 3_X-information; ComponentLink4Description: 4_X-information; Creation date: 20190101; ClassName: SMALL; Component Type: Resistor
footprint RES_0201_UN1Q (Chip Resistor, 0.6x0.3mm)
pins: 1, 2

## CMP-001-000450-13
designator R?, comment value 12k  (hidden comment: RES_0201_12k)
RES; Part Number: RC0201FR-0712KL; Manufacturer: YAGEO; Power Rating: 1/20W; Alternative component: Allowed; Tolerance: 1%; System: RLC; Sort order: 322; HasBeenBuilt: TBD; Package: 0201; ComponentLink4Description: 4_X-information; ComponentLink1Description: 1_Datasheet; Creation date: 20190101; Source: RLC_UN1Q.SchLib; ComponentLink2Description: 2_Product page; ClassName: SMALL; ComponentLink3Description: 3_X-information; Component Type: Resistor
footprint RES_0201_UN1Q (Chip Resistor, 0.6x0.3mm)
pins: 1, 2

## CMP-001-000453-11
designator R?, comment value 18k  (hidden comment: RES_0201_18k)
RES; Part Number: RC0201FR-0718KL; Manufacturer: YAGEO; Power Rating: 1/20W; Sort order: 322; Tolerance: 1%; Alternative component: Allowed; System: RLC; Package: 0201; ComponentLink1Description: 1_Datasheet; ComponentLink2Description: 2_Product page; ComponentLink3Description: 3_X-information; ComponentLink4Description: 4_X-information; Creation date: 20230926; ClassName: SMALL; Component Type: Resistor
footprint RES_0201_UN1Q (Chip Resistor, 0.6x0.3mm)
pins: 1, 2

## CMP-001-000455-11
designator R?, comment value 1k5  (hidden comment: RES_0201_1k5)
RES; Part Number: RC0201FR-071K5L; Manufacturer: YAGEO; Power Rating: 1/20W; Sort order: 322; HasBeenBuilt: False; Tolerance: 1%; Alternative component: Allowed; System: RLC; Package: 0201; ClassName: SMALL; ComponentLink1Description: 1_Datasheet; ComponentLink2Description: 2_Product page; ComponentLink3Description: 3_X-information; ComponentLink4Description: 4_X-information; Creation date: 20190101; Source: RLC_UN1Q.SchLib; Component Type: Resistor
footprint RES_0201_UN1Q (Chip Resistor, 0.6x0.3mm)
pins: 1, 2

## CMP-001-000458-12
designator R?, comment value 20k  (hidden comment: RES_0201_20k)
RES; Part Number: RC0201FR-0720KL; Manufacturer: YAGEO; System: RLC; Sort order: 322; Power Rating: 1/20W; Alternative component: Allowed; HasBeenBuilt: TBD; Tolerance: 1%; ComponentLink3Description: 3_X-information; Package: 0201; ComponentLink1Description: 1_Datasheet; ComponentLink4Description: 4_X-information; Creation date: 20230510; ClassName: SMALL; ComponentLink2Description: 2_Product page; Component Type: Resistor
footprint RES_0201_UN1Q (Chip Resistor, 0.6x0.3mm)
pins: 1, 2

## CMP-001-000464-11
designator R?, comment value 2k2  (hidden comment: RES_0201_2k2)
RES; Part Number: RC0201FR-072K2L; Manufacturer: YAGEO; Tolerance: 1%; Power Rating: 1/20W; Sort order: 322; HasBeenBuilt: TBD; Alternative component: Allowed; System: RLC; Package: 0201; ComponentLink1Description: 1_Datasheet; ComponentLink2Description: 2_Product page; ComponentLink3Description: 3_X-information; ComponentLink4Description: 4_X-information; Creation date: 20190101; ClassName: SMALL; Component Type: Resistor
footprint RES_0201_UN1Q (Chip Resistor, 0.6x0.3mm)
pins: 1, 2

## CMP-001-000476-12
designator R?, comment value 4R7  (hidden comment: RES_0201_4R7)
RES; Part Number: RC0201FR-074R7L; Manufacturer: YAGEO; Tolerance: 1%; HasBeenBuilt: TBD; Alternative component: Allowed; Sort order: 322; Power Rating: 1/20W; System: RLC; ComponentLink2Description: 2_Product page; ClassName: SMALL; ComponentLink4Description: 4_X-information; ComponentLink1Description: 1_Datasheet; Package: 0201; Source: RLC_UN1Q.SchLib; Creation date: 20230510; ComponentLink3Description: 3_X-information; Component Type: Resistor
footprint RES_0201_UN1Q (Chip Resistor, 0.6x0.3mm)
pins: 1, 2

## CMP-001-000488-12
designator R?, comment value 10R  (hidden comment: RES_0402_10R)
RES; Part Number: RC0402FR-7D10RL; Manufacturer: Yageo Group; Sort order: 324; Tolerance: 1%; Alternative component: Allowed; HasBeenBuilt: TBD; System: RLC; Power Rating: 1/16W; ComponentLink1Description: 1_Datasheet; ComponentLink2Description: 2_Product page; ECCN: EAR99; Package: 0402; Operating temperature range: -55 ... +155°C; ComponentLink3Description: 3_X-information; Source: RLC_UN1Q.SchLib; RoHS: RoHS3; Creation date: 20190101; ComponentLink4Description: 4_X-information; Manufacturer Part Number: RC0402FR-7D10RL; Component Type: Resistor
footprint RES_0402_UN1Q (Chip Resistor, 1.0x0.5mm)
pins: 1, 2

## CMP-001-000526-11
designator R?, comment value 100k  (hidden comment: RES_0201_100k)
RES; Part Number: RC0201FR-07100KL; Manufacturer: YAGEO; Tolerance: 1%; Power Rating: 1/20W; Sort order: 322; HasBeenBuilt: TBD; Alternative component: Allowed; System: RLC; Package: 0201; ClassName: SMALL; ComponentLink1Description: 1_Datasheet; ComponentLink2Description: 2_Product page; ComponentLink3Description: 3_X-information; ComponentLink4Description: 4_X-information; Creation date: 20190101; Source: RLC_UN1Q.SchLib; Component Type: Resistor
footprint RES_0201_UN1Q (Chip Resistor, 0.6x0.3mm)
pins: 1, 2

## CMP-001-000527-13
designator R?, comment value 100R  (hidden comment: RES_0201_100R)
RES; Part Number: RC0201FR-07100RL; Manufacturer: YAGEO; Manufacturer: Yageo Group; Tolerance: 1%; Power Rating: 1/20W; Sort order: 322; HasBeenBuilt: TBD; Alternative component: Allowed; System: RLC; Package: 0201; ClassName: SMALL; ComponentLink1Description: 1_Datasheet; ComponentLink2Description: 2_Product page; ComponentLink3Description: 3_X-information; ComponentLink4Description: 4_X-information; Creation date: 20190101; Source: RLC_UN1Q.SchLib; Manufacturer Part Number: RC0201FR-07100RL; Component Type: Resistor
footprint RES_0201_UN1Q (Chip Resistor, 0.6x0.3mm)
pins: 1, 2

## CMP-001-000535-12
designator R?, comment value 12k4  (hidden comment: RES_0201_12k4)
RES; Manufacturer: YAGEO; Part Number: RC0201FR-0712K4L; Alternative component: Allowed; Tolerance: 1%; System: RLC; Power Rating: 1/20W; HasBeenBuilt: TBD; Sort order: 322; ComponentLink2Description: 2_Product page; ComponentLink1Description: 1_Datasheet; Package: 0201; ComponentLink3Description: 3_X-information; Creation date: 20230510; Source: RLC_UN1Q.SchLib; ClassName: SMALL; ComponentLink4Description: 4_X-information; Component Type: Resistor
footprint RES_0201_UN1Q (Chip Resistor, 0.6x0.3mm)
pins: 1, 2

## CMP-001-000538-13
designator R?, comment value 150k  (hidden comment: RES_0201_150k)
RES; Part Number: RC0201FR-07150KL; Manufacturer: YAGEO; Tolerance: 1%; Power Rating: 1/20W; Sort order: 322; HasBeenBuilt: TBD; Alternative component: Allowed; System: RLC; Package: 0201; ComponentLink1Description: 1_Datasheet; ComponentLink2Description: 2_Product page; ComponentLink3Description: 3_X-information; ComponentLink4Description: 4_X-information; Creation date: 20211202; ClassName: SMALL; Component Type: Resistor
footprint RES_0201_UN1Q (Chip Resistor, 0.6x0.3mm)
pins: 1, 2

## CMP-001-000543-12
designator R?, comment value 180k  (hidden comment: RES_0201_180k)
RES; Part Number: RC0201FR-07180KL; Manufacturer: YAGEO; Tolerance: 1%; Power Rating: 1/20W; Sort order: 322; HasBeenBuilt: TBD; Alternative component: Allowed; System: RLC; Package: 0201; ComponentLink1Description: 1_Datasheet; ComponentLink2Description: 2_Product page; ComponentLink3Description: 3_X-information; ComponentLink4Description: 4_X-information; Creation date: 20190101; ClassName: SMALL; Component Type: Resistor
footprint RES_0201_UN1Q (Chip Resistor, 0.6x0.3mm)
pins: 1, 2

## CMP-001-000549-13
designator R?, comment value 200R  (hidden comment: RES_0201_200R)
RES; Part Number: CRCW0201200RFNED; Manufacturer: Vishay Dale; Tolerance: 1%; Power Rating: 1/20W; Sort order: 322; HasBeenBuilt: TBD; Alternative component: Allowed; System: RLC; Package: 0201; ClassName: SMALL; ComponentLink1Description: 1_Datasheet; ComponentLink2Description: 2_Product page; ComponentLink3Description: 3_X-information; ComponentLink4Description: 4_X-information; Creation date: 20190101; Source: RLC_UN1Q.SchLib; Component Type: Resistor
footprint RES_0201_UN1Q (Chip Resistor, 0.6x0.3mm)
pins: 1, 2

## CMP-001-000554-14
designator R?, comment value 240R  (hidden comment: RES_0201_240R)
RES; Part Number: RC0201JR-07240RL; Manufacturer: Yageo; Manufacturer: Yageo Group; Manufacturer Part Number: RC0201FR-07240RL; Tolerance: 1%; Power Rating: 1/20W; Sort order: 322; HasBeenBuilt: TBD; Alternative component: Allowed; System: RLC; Package: 0201; ClassName: SMALL; ComponentLink1Description: 1_Datasheet; ComponentLink2Description: 2_Product page; ComponentLink3Description: 3_X-information; ComponentLink4Description: 4_X-information; Creation date: 20190101; ECCN: EAR99; Source: RLC_UN1Q.SchLib; RoHS: RoHS 3; Component Type: Resistor
footprint RES_0201_UN1Q (Chip Resistor, 0.6x0.3mm)
pins: 1, 2

## CMP-001-000571-11
designator R?, comment value 470k  (hidden comment: RES_0201_470k)
RES; Part Number: RC0201FR-07470KL; Manufacturer: YAGEO; Power Rating: 1/20W; Sort order: 322; HasBeenBuilt: TBD; Tolerance: 1%; Alternative component: Allowed; System: RLC; Package: 0201; ComponentLink1Description: 1_Datasheet; ComponentLink2Description: 2_Product page; ComponentLink3Description: 3_X-information; ComponentLink4Description: 4_X-information; Creation date: 20230526; ClassName: SMALL; Source: RLC_UN1Q.SchLib; Component Type: Resistor
footprint RES_0201_UN1Q (Chip Resistor, 0.6x0.3mm)
pins: 1, 2

## CMP-001-000572-11
designator R?, comment value 470R  (hidden comment: RES_0201_470R)
RES; Manufacturer: Yageo; Part Number: RC0201FR-07470RL; HasBeenBuilt: TBD; Sort order: 322; Alternative component: Allowed; Tolerance: 1%; Power Rating: 1/20W; System: RLC; ComponentLink3Description: 3_X-information; Creation date: 03012023; Source: RLC_UN1Q.SchLib; ComponentLink1Description: 1_Datasheet; Package: 0201; ComponentLink2Description: 2_Product page; ComponentLink4Description: 4_X-information; ClassName: SMALL; Component Type: Resistor
footprint RES_0201_UN1Q (Chip Resistor, 0.6x0.3mm)
pins: 1, 2

## CMP-001-000574-12
designator R?, comment value 49R9  (hidden comment: RES_0201_49R9)
RES; Manufacturer: YAGEO; Part Number: RC0201FR-0749R9L; Sort order: 322; HasBeenBuilt: TBD; System: RLC; Power Rating: 1/20W; Tolerance: 1%; Alternative component: Allowed; ComponentLink1Description: 1_Datasheet; Source: RLC_UN1Q.SchLib; Creation date: 20190101; Package: 0201; ComponentLink2Description: 2_Product page; ClassName: SMALL; ComponentLink4Description: 4_X-information; ComponentLink3Description: 3_X-information; Component Type: Resistor
footprint RES_0201_UN1Q (Chip Resistor, 0.6x0.3mm)
pins: 1, 2

## CMP-001-000576-12
designator R?, comment value 510k  (hidden comment: RES_0201_510k)
RES; Part Number: ERJ-1GNF5103C; Manufacturer: Panasonic Electronic Components; Sort order: 322; HasBeenBuilt: TBD; Alternative component: Allowed; System: RLC; Power Rating: 1/20W; Tolerance: 1%; Package: 0201; ComponentLink1Description: 1_Datasheet; ComponentLink2Description: 2_Product page; ComponentLink3Description: 3_X-information; ComponentLink4Description: 4_X-information; Creation date: 20211123; Source: RLC_UN1Q.SchLib; ClassName: SMALL; Component Type: Resistor
footprint RES_0201_UN1Q (Chip Resistor, 0.6x0.3mm)
pins: 1, 2

## CMP-001-000600-12
designator R?, comment value 120k  (hidden comment: RES_0402_120k)
RES; Part Number: RC0402JR-07120KL; Manufacturer: Yageo; Manufacturer: Yageo Group; Power Rating: 1/16W; Sort order: 324; HasBeenBuilt: TBD; Tolerance: 1%; Alternative component: Allowed; System: RLC; Package: 0402; Operating temperature range: -55 ... +155°C; ComponentLink1Description: 1_Datasheet; ComponentLink2Description: 2_Product page; ComponentLink3Description: 3_X-information; ComponentLink4Description: 4_X-information; Creation date: 20211008; RoHS: RoHS3; ECCN: EAR99; Source: RLC_UN1Q.SchLib; Manufacturer Part Number: RC0402JR-07120KL; Component Type: Resistor
footprint RES_0402_UN1Q (Chip Resistor, 1.0x0.5mm)
pins: 1, 2

## CMP-001-000646-11
designator R?, comment value 49R9  (hidden comment: RES_0402_49R9)
RES; Manufacturer: Yageo; Part Number: RC0402FR-0749R9L; Manufacturer: Yageo Group; Alternative component: Allowed; Tolerance: 1%; Sort order: 324; HasBeenBuilt: Saluki; Power Rating: 1/16W; System: RLC; ComponentLink3Description: 3_X-information; Creation date: 20210916; ComponentLink2Description: 2_Product page; Source: RLC_UN1Q.SchLib; ECCN: EAR99; Operating temperature range: -55 ... +155°C; ComponentLink1Description: 1_Datasheet; ComponentLink4Description: 4_X-information; Package: 0402; RoHS: RoHS3 with ex; Manufacturer Part Number: RC0402FR-0749R9L; Component Type: Resistor
footprint RES_0402_UN1Q (Chip Resistor, 1.0x0.5mm)
pins: 1, 2

## CMP-001-000656-12
designator R?, comment value 649k  (hidden comment: RES_0402_649k)
RES; Part Number: RC0402FR-07649KL; Manufacturer: YAGEO; Tolerance: 1%; Power Rating: 1/16W; Sort order: 324; HasBeenBuilt: False; Alternative component: Allowed; System: RLC; Package: 0402; ComponentLink1Description: 1_Datasheet; ComponentLink2Description: 2_Product page; ComponentLink3Description: 3_X-information; ComponentLink4Description: 4_X-information; Creation date: 20210928; Component Type: Resistor
footprint RES_0402_UN1Q (Chip Resistor, 1.0x0.5mm)
pins: 1, 2

## CMP-001-000676-11
designator R?, comment value 0.01Ohm  (hidden comment: RES_0805_0R01_KRL1220E)
RES 0805 0.01R, current measurement resistor.; Part Number: KRL1220E-M-R010-F; Manufacturer: Susumu; Tolerance: 1%; Sort order: 328; HasBeenBuilt: False; Power Rating: 1/2W; System: RLC; Package: 0805; Operating temperature range: -55C ... +155C; ComponentLink1Description: 1_Datasheet; ComponentLink1URL: https://www.susumu.co.jp/common/pdf/n_catalog_partition09_en.pdf; ComponentLink2Description: 2_Product page; ComponentLink3Description: 3_X-information; ComponentLink4Description: 4_X-information; Creation date: 20210928; Source: RLC_UN1Q.SchLib; Manufacturer Part Number: KRL1220E-M-R010-F; Component Type: Resistor
footprint RES_0805_UN1Q (Resistor 0805)
pins: 1, 2

## CMP-001-000685-10
designator Y?, comment value 32MHz  (hidden comment: XTAL_32M_2016_8pF)
Crystal 32MHz 8pF stab 10% tol 10%; Part Number: ECS-320-8-37B-CKY; Manufacturer: ECS; Manufacturer: ECS International; Manufacturer Part Number: ECS-320-8-37B-CKY-TR; Tolerance: +/-10ppm; Sort order: 455; HasBeenBuilt: False; System: Discrete; Operating temperature range: -30 ... +85C; Dimensions WxLxH: 2 x 1.6mm x 0.65mm; Package: 2016; ComponentLink1Description: 1_Datasheet; ComponentLink1URL: https://ecsxtal.com/store/pdf/ECX-1637B.pdf; ComponentLink2Description: 2_Product_page; ComponentLink2URL: https://ecsxtal.com/ecx-1637b; ComponentLink3Description: 3_X-information; ComponentLink4Description: 4_X-information; Creation date: 20210913; Source: Discrete_UN1Q.SchLib; Manufacturer Part Number: ECS-320-8-37B-CKY; Component Type: Crystal & Oscillator
footprint XTAL_2016_UN1Q (Murata XTAL 2.0 x 1.6mm)
pins: 1, 2 GND (power) hidden to GND, 3, 4 GND (power) hidden to GND

## CMP-001-000697-8
designator QZ?, comment value 32.768 kHz  (hidden comment: XTAL_CM8V-T1A-32_768KHZ-9PF-20PPM-TA-QC)
SMT Quartz Crystal; Manufacturer: Micro Crystal; Part Number: CM8V-T1A-32.768KHZ-9PF-20PPM-TA-QC; HasBeenBuilt: SleeveIO_01; Sort order: 455; System: Discrete; ClassName: BIG; ComponentLink1Description: 1_Datasheet; ComponentLink1URL: https://www.microcrystal.com/fileadmin/Media/Products/32kHz/Datasheet/CM8V-T1A.pdf; ComponentLink2Description: 2_Product page; ComponentLink2URL: https://www.microcrystal.com/en/products/khz-quartz-crystals/cm8v-t1a/; ComponentLink3Description: 3_X-information; ComponentLink4Description: 4_X-information; Creation date: 20210913; Dimensions WxLxH: 1.2x2.0x0.6mm; Operating temperature range: -40 .... +85 °C; Package: 2-SMD; Source: Discrete_UN1Q.SchLib; Manufacturer Part Number: CM8V-T1A-32.768KHZ-9PF-20PPM-TA-QC; Component Type: Crystal & Oscillator
footprint CM8V32768TA020125_MC (2.0 x 1.2 x 0.60 mm)
pins: 1, 2